# Altium schematic symbol library 1-84952-1.SchLib: 1 symbol
Pins are listed as number, name and electrical type; pins without a type are passive.

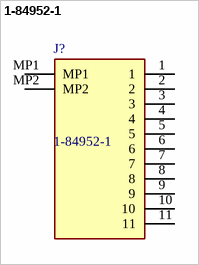
[diagram p0: symbol 1-84952-1]

## 1-84952-1
designator J?
FFC & FPC Connectors 1MM FPC HORZ .BTTM CONT.ASS.11P; Manufacturer_Name: TE Connectivity; Geometry.Height: 2.74mm; Mouser Part Number: 571-1-84952-1; Mouser Price/Stock: https://www.mouser.co.uk/ProductDetail/TE-Connectivity/1-84952-1?qs=uUkeXfjQ8uS9Vjbveobf0Q%3D%3D; Manufacturer_Part_Number: 1-84952-1; Datasheet Link: https://componentsearchengine.com/Datasheets/2/1-84952-1.pdf
footprint 1849521
pins: 1, 2, 3, 4, 5, 6, 7, 8, 9, 10, 11, MP1, MP2